# Altium footprint library SW-TH_DEALON_MS-12D19-G2.PcbLib: 1 footprints
Each footprint in its own frame and in the unit in brackets; x right, y up, seen from the top. Pads: shape width x height; smd on the part's side, far side on the other; paste and mask are expansions set on the pad; w line width, h text height; cw(c..) or ccw(c..) is an arc to the next point about the centre after c.
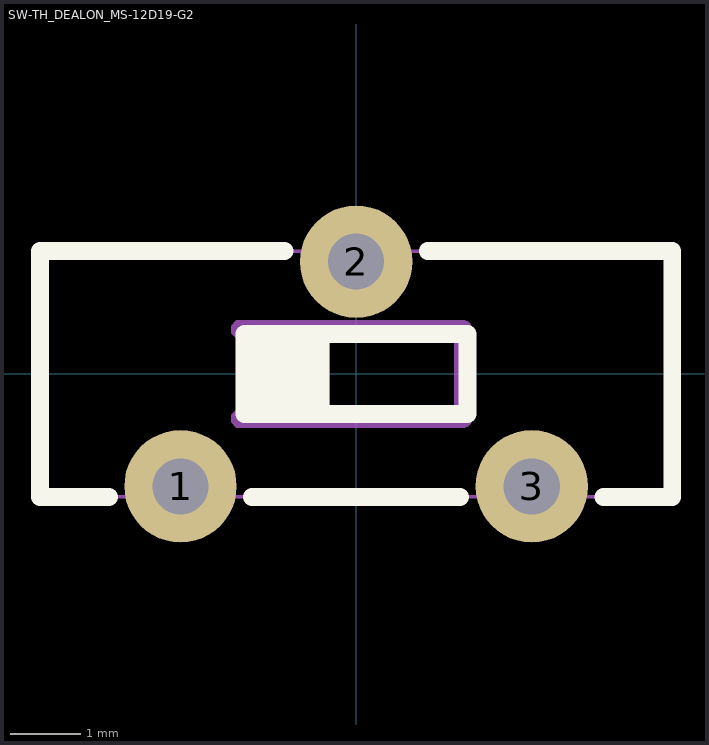
[diagram p0: the footprint, top view; thin cyan lines are the x and y axes]

## SW-TH_DEALON_MS-12D19-G2 [mm]
pads (3):
  round 1.6 hole 0.8: 1(-2.5,-1.6) 2(0,1.6) 3(2.5,-1.6)
Top Overlay:
  region: -0.381,0.635 -0.381,-0.635 -1.397,-0.635 -1.524,-0.508 -1.524,0.508
  lines w0.254: -3.52,-1.75 -4.5,-1.75 -4.5,1.75 -1.02,1.75 ; -1.48,-1.75 1.48,-1.75 ; 1.02,1.75 4.5,1.75 4.5,-1.75 3.52,-1.75 ; -1.588,-0.572 -1.588,0.572 1.587,0.572 1.587,-0.572 -1.588,-0.572
Mechanical 6:
  region: -1.651,0.762 1.524,0.762 1.549,0.762 1.596,0.743 1.632,0.707 1.651,0.66 1.651,0.635 1.651,-0.635 1.651,-0.66 1.632,-0.707 1.596,-0.743 1.549,-0.762 1.524,-0.762 -1.651,-0.762 -1.704,-0.762 -1.778,-0.688 -1.778,-0.582 -1.704,-0.508 -1.651,-0.508 1.397,-0.508 1.397,0.508 -1.651,0.508 -1.704,0.508 -1.778,0.582 -1.778,0.688 -1.704,0.762 -1.651,0.762
  region: -1.651,0.508 -0.381,0.508 -0.381,-0.508 -1.651,-0.508
Mechanical 15:
  region: -0.25,1.725 0.25,1.725 0.25,1.475 -0.25,1.475
  region: -2.75,-1.475 -2.25,-1.475 -2.25,-1.725 -2.75,-1.725
  region: 2.25,-1.475 2.75,-1.475 2.75,-1.725 2.25,-1.725
  region: -4.44,-1.75 -4.44,-1.725 -4.475,-1.69 -4.525,-1.69 -4.56,-1.725 -4.56,-1.75 -4.56,-1.775 -4.525,-1.81 -4.475,-1.81 -4.44,-1.775 -4.44,-1.75
  lines w0.051: -4.5,-1.75 4.5,-1.75 4.5,1.75 -4.5,1.75 -4.5,-1.75